# Altium footprint library LM1117封装.PcbLib: 1 footprints
Each footprint in its own frame and in the unit in brackets; x right, y up, seen from the top. Pads: shape width x height; smd on the part's side, far side on the other; paste and mask are expansions set on the pad; w line width, h text height; cw(c..) or ccw(c..) is an arc to the next point about the centre after c.
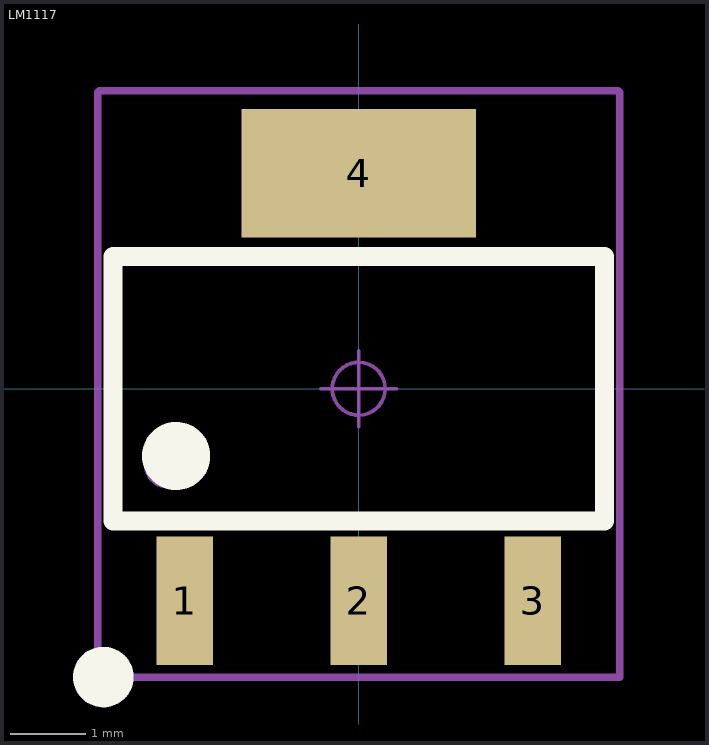
[diagram p0: the footprint, top view; thin cyan lines are the x and y axes]

## LM1117 [mm] "6.4x7x1.6mm(长宽高)"
height 1.7
pads (4):
  rect 0.75x1.7 smd: 1(-2.3,-2.8) 2(0,-2.8) 3(2.3,-2.8)
  rect 3.1x1.7 smd: 4(0,2.85)
Top Overlay:
  circle w0.5: c-2.413,-0.889 r0.2
  circle w0.4: c-3.375,-3.81 r0.2
  lines w0.25: -3.25,-1.75 -3.25,1.75 3.25,1.75 3.25,-1.75 -3.25,-1.75
Mechanical 13:
  circle w0.1: c-2.536,-1.016 r0.25
  lines w0.1: -3.25,-1.75 -3.25,1.75 3.25,1.75 3.25,-1.75 -3.25,-1.75
Mechanical 15:
  circle w0.05: c0,0 r0.35
  lines w0.05: -0.5,0 0.5,0 ; 0,-0.5 0,0.5
  lines w0.1: 3.175,-3.81 -3.217,-3.81 -3.45,-3.81 ; 3.429,3.937 3.302,3.937 -3.175,3.937 -3.429,3.937 -3.45,3.916 -3.45,3.789 -3.45,-3.81 ; 3.45,3.916 3.45,-3.81 -3.45,-3.81